# EAGLE library part MAX4172 (library IC_Linear)
Current-Sense Amplifier Reference Datasheet <https://datasheets.maximintegrated.com/en/ds/MAX4172.pdf>
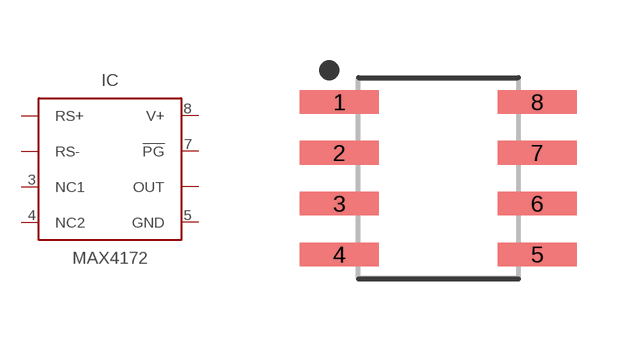
[diagram p7: symbol with the pads of SOIC127P600X175-8N; footprint SOIC127P600X175-8N]

Designator prefix IC

## MAX4172_SOIC (CATEGORY: Amplifier; DESCRIPTION: Current-Sense Amplifier; MANUFACTURER: Maxim Integrated; MPN: Generic; SERIES: MAX4172; SUB-CATEGORY: Current Sense; VALUE: MAX4172)  [SOIC127P600X175-8N]
1  RS+  in
2  RS-  in
3  NC1
4  NC2  pas
5  GND  pas
6  OUT  out
7  !PG  pas
8  V+

## Footprint SOIC127P600X175-8N (pad centres in mm)
8-SOIC, 1.27 mm pitch, 6.00 mm span, 4.90 X 3.90 X 1.75 mm body 8-pin SOIC package with 1.27 mm pitch, 6.00 mm span with body size 4.90 X 3.90 X 1.75 mm
smd 1.969 x 0.592: 1 -2.474,1.905; 2 -2.474,0.635; 3 -2.474,-0.635; 4 -2.474,-1.905; 5 2.474,-1.905; 6 2.474,-0.635; 7 2.474,0.635; 8 2.474,1.905